# Altium integrated library TI Power Management Power Modules.IntLib: 831 symbols (part 20 of 44)
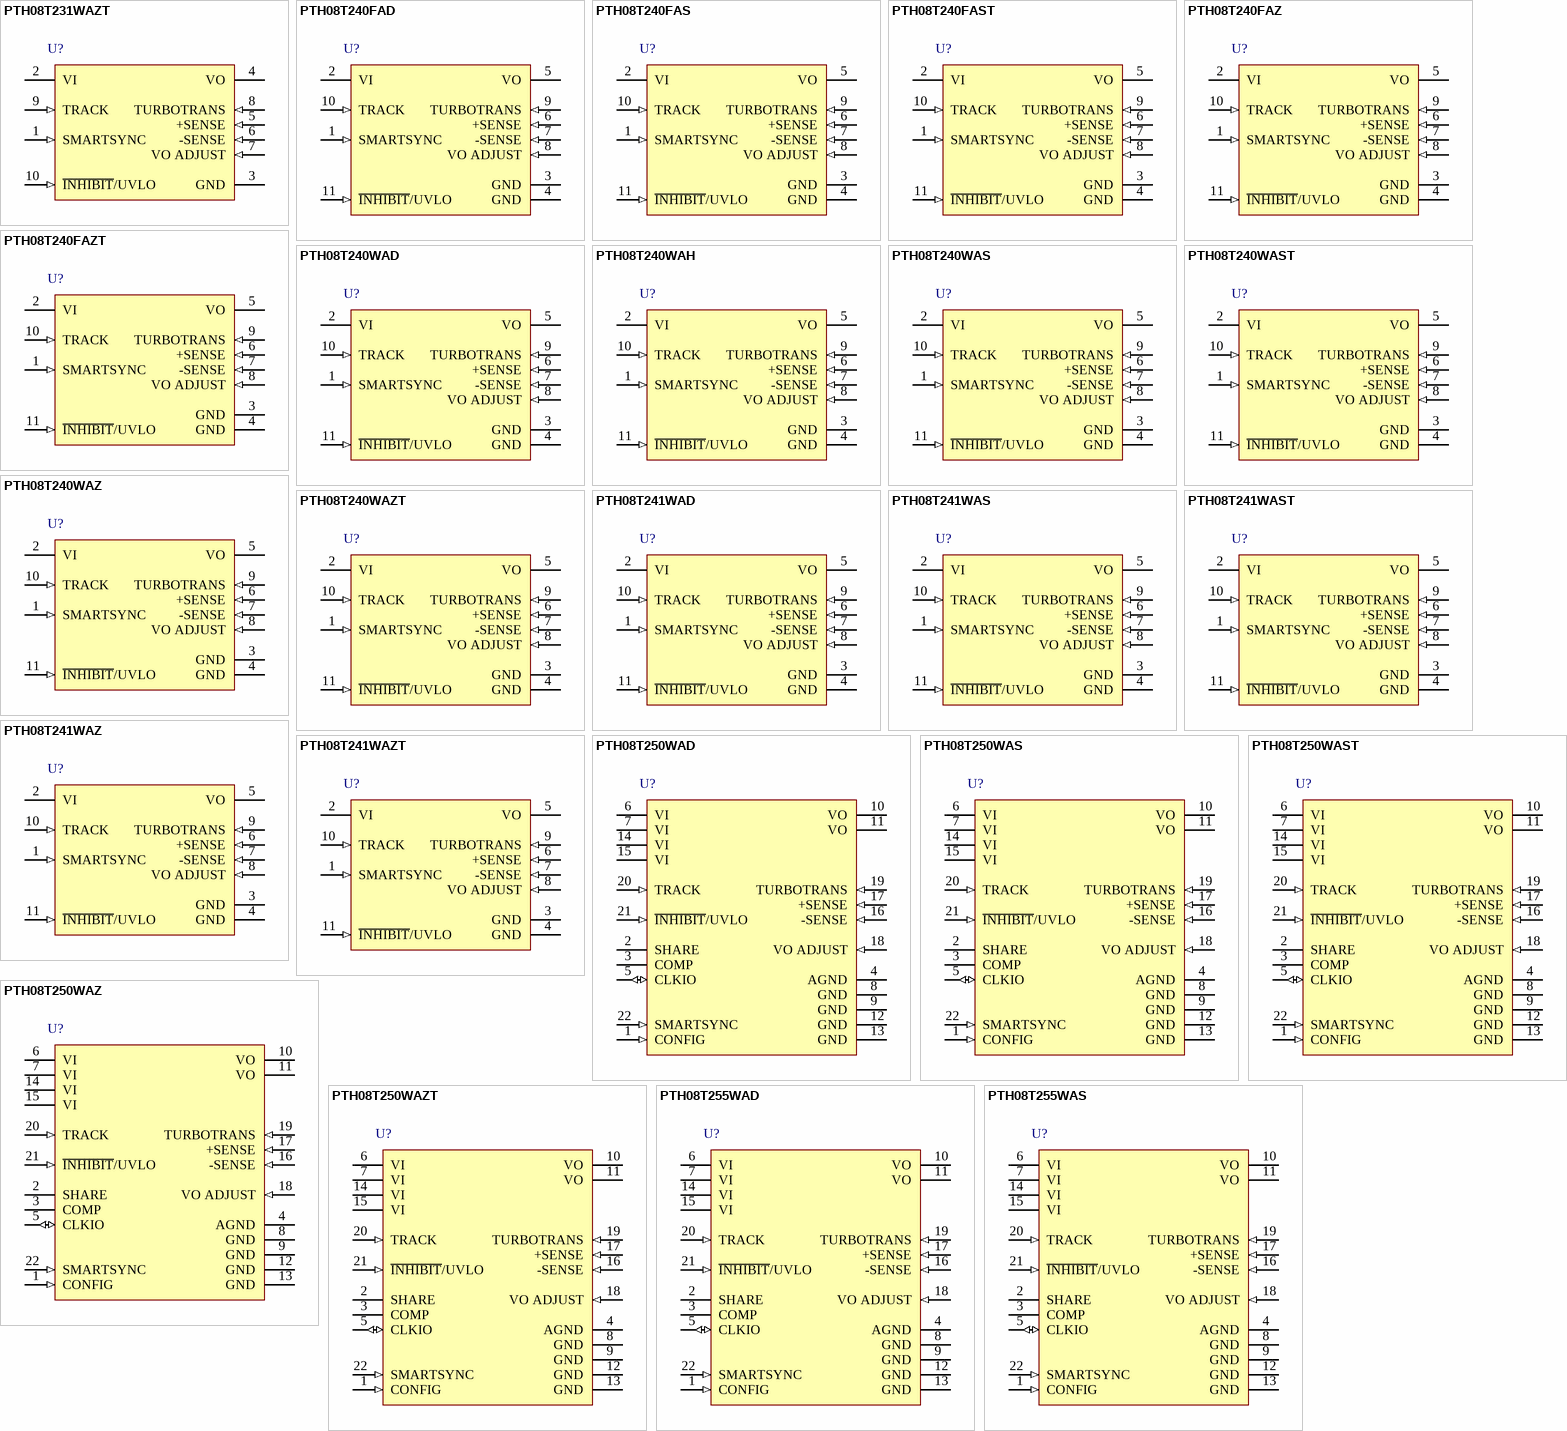
[diagram p42: symbols PTH08T231WAZT to PTH08T255WAS]

## PTH08T250WAZ
designator U?
50 A, 4.5 to 14 V Input, Non-Isolated, Wide Output, Adjustable Power Module with TurboTrans, -40 to 85 degC, 22-pin Module (BCU22), Pb-Free (RoHS); Manufacturer: Texas Instruments; PartNumber: PTH08T250WAZ; Iout(Max)(A): 50; Regulated Outputs(#): 1; SubFamily: Non-Isolated POL; Vin(Max)(V): 14; Vin(Min)(V): 4.5; VO Adjustable: TRUE; Vout(Max)(V): 3.6; Vout(Min)(V): 0.7; DatasheetVersion: SLTS278G; PackageVersion: 4208556/D; PackageReference: BCU22; PackageDescription: 22-Pin Plastic Special Shape, Body 25.91 x 38.61 mm; Supplier 1: Digi-Key; Supplier Part Number 1: 296-22039-ND; Supplier 2: Newark; Supplier Part Number 2: 53M3844; Supplier 3: Mouser; Supplier Part Number 3: 595-PTH08T250WAZ; Eco-Plan: Pb-Free (RoHS); Mounting Technology: Surface Mount; ComponentLink1Description: Manufacturer URL; ComponentLink1URL: http://www.ti.com/; ComponentLink2Description: Datasheet; ComponentLink2URL: http://www.ti.com/general/docs/lit/getliterature.tsp?genericPartNumber=PTH08T250W&fileType=pdf; ComponentLink3Description: Package Specification; ComponentLink3URL: http://www.ti.com/lit/ml/mpds325c/mpds325c.pdf; ComponentLink4Description: URL Link1; ComponentLink4URL: Samples URL:http://www.ti.com/product/pth08t250w#samples
footprint TI-BCU22_V (Module, 22-Leads, Body 38.61x25.91mm)
pins: 1 CONFIG (in) "When two modules are connected together to share load current one must be configured as the MASTER and the other as the SLAVE. This pin is used to configure the module as either MASTER or SLAVE. To configure the module as (See Datasheet)", 2 SHARE "This pin is used when connecting two modules together to share load current. When two modules are sharing current the Share pin of both modules must be connected together. When not sharing current, this pin MUST be left open (See Datasheet)", 3 COMP "This pin is used when connecting two modules together to share load current. When two modules are sharing current the Comp pin of both modules must be connected together. When not sharing current, this pin MUST be left open (See Datasheet)", 4 AGND (power) "This pin is the internal analog ground of the module. This pin provides the return path for the VOAdjust resistor (RSET). When two modules are sharing current the AGND pin of both modules must be connected together. Also, (See Datasheet)", 5 CLKIO (io) "This pin is used when connecting two modules together to share load current. When two modules are sharing current the CLKIO pin of both modules must be connected together. When not sharing current, this pin MUST be left open (See Datasheet)", 6 VI (power) "The positive input voltage power node to the module, which is referenced to common GND.", 7 VI (power) "The positive input voltage power node to the module, which is referenced to common GND.", 8 GND (power) "This is the common ground connection for the VI and VO power connections. It is also the 0 Vdc reference for the control inputs.", 9 GND (power) "This is the common ground connection for the VI and VO power connections. It is also the 0 Vdc reference for the control inputs.", 10 VO (power) "The regulated positive power output with respect to GND.", 11 VO (power) "The regulated positive power output with respect to GND.", 12 GND (power) "This is the common ground connection for the VI and VO power connections. It is also the 0 Vdc reference for the control inputs.", 13 GND (power) "This is the common ground connection for the VI and VO power connections. It is also the 0 Vdc reference for the control inputs.", 14 VI (power) "The positive input voltage power node to the module, which is referenced to common GND.", 15 VI (power) "The positive input voltage power node to the module, which is referenced to common GND.", 16 -SENSE (in) "The sense input allows the regulation circuit to compensate for voltage drop between the module and the load. The -Sense pin should always be connected to GND, either at the load for optimal voltage accuracy, or at the (See Datasheet)", 17 +SENSE (in) "The sense input allows the regulation circuit to compensate for voltage drop between the module and the load. The +Sense pin should always be connected to VO, either at the load for optimal voltage accuracy, or at the module (See Datasheet)", 18 VO ADJUST (in) "A 0.05 W 1% resistor must be directly connected between this pin and pin4 (AGND) to set the output voltage to a value higher than 3.0V. The temperature stability of the resistor should be 100 ppm/degreesC (or better). The (See Datasheet)", 19 TURBOTRANS (in) "This input pin adjusts the transient response of the regulator. To activate the TurboTrans feature, a 1%, 50mW resistor, must be connected between this pin and pin 17 (+Sense) very close to the module. For a given value of (See Datasheet)", 20 TRACK (in) "This is an analog control input that enables the output voltage to follow an external voltage. This pin becomes active typically 25 ms after a valid input voltage has been applied, and allows direct control of the output (See Datasheet)", 21 ~{INHIBIT}/UVLO (in) "The Inhibit pin is an open-collector/drain, negative logic input that is referenced to GND. Applying a low level ground signal to this input disables the module’s output and turns off the output voltage. When the Inhibit (See Datasheet)", 22 SMARTSYNC (in) "This input pin sychronizes the switching frequency of the module to an external clock frequency. The SmartSync feature can be used to sychronize the switching frequency of multiple modules, aiding EMI noise suppression (See Datasheet)"

## PTH08T250WAZT
designator U?
50 A, 4.5 to 14 V Input, Non-Isolated, Wide Output, Adjustable Power Module with TurboTrans, -40 to 85 degC, 22-pin Module (BCU22), Pb-Free (RoHS); Manufacturer: Texas Instruments; PartNumber: PTH08T250WAZT; Iout(Max)(A): 50; Regulated Outputs(#): 1; SubFamily: Non-Isolated POL; Vin(Max)(V): 14; Vin(Min)(V): 4.5; VO Adjustable: TRUE; Vout(Max)(V): 3.6; Vout(Min)(V): 0.7; DatasheetVersion: SLTS278G; PackageVersion: 4208556/D; PackageReference: BCU22; PackageDescription: 22-Pin Plastic Special Shape, Body 25.91 x 38.61 mm; Supplier 1: Digi-Key; Supplier Part Number 1: 296-31712-2-ND; Supplier 2: Digi-Key; Supplier Part Number 2: 296-31712-1-ND; Supplier 3: Digi-Key; Supplier Part Number 3: 296-31712-6-ND; Supplier 4: Newark; Supplier Part Number 4: 53M3845; Supplier 5: Mouser; Supplier Part Number 5: 595-PTH08T250WAZT; Eco-Plan: Pb-Free (RoHS); Mounting Technology: Surface Mount; ComponentLink1Description: Manufacturer URL; ComponentLink1URL: http://www.ti.com/; ComponentLink2Description: Datasheet; ComponentLink2URL: http://www.ti.com/general/docs/lit/getliterature.tsp?genericPartNumber=PTH08T250W&fileType=pdf; ComponentLink3Description: Package Specification; ComponentLink3URL: http://www.ti.com/lit/ml/mpds325c/mpds325c.pdf; ComponentLink4Description: URL Link1; ComponentLink4URL: Samples URL:http://www.ti.com/product/pth08t250w#samples
footprint TI-BCU22_V (Module, 22-Leads, Body 38.61x25.91mm)
pins: 1 CONFIG (in) "When two modules are connected together to share load current one must be configured as the MASTER and the other as the SLAVE. This pin is used to configure the module as either MASTER or SLAVE. To configure the module as (See Datasheet)", 2 SHARE "This pin is used when connecting two modules together to share load current. When two modules are sharing current the Share pin of both modules must be connected together. When not sharing current, this pin MUST be left open (See Datasheet)", 3 COMP "This pin is used when connecting two modules together to share load current. When two modules are sharing current the Comp pin of both modules must be connected together. When not sharing current, this pin MUST be left open (See Datasheet)", 4 AGND (power) "This pin is the internal analog ground of the module. This pin provides the return path for the VOAdjust resistor (RSET). When two modules are sharing current the AGND pin of both modules must be connected together. Also, (See Datasheet)", 5 CLKIO (io) "This pin is used when connecting two modules together to share load current. When two modules are sharing current the CLKIO pin of both modules must be connected together. When not sharing current, this pin MUST be left open (See Datasheet)", 6 VI (power) "The positive input voltage power node to the module, which is referenced to common GND.", 7 VI (power) "The positive input voltage power node to the module, which is referenced to common GND.", 8 GND (power) "This is the common ground connection for the VI and VO power connections. It is also the 0 Vdc reference for the control inputs.", 9 GND (power) "This is the common ground connection for the VI and VO power connections. It is also the 0 Vdc reference for the control inputs.", 10 VO (power) "The regulated positive power output with respect to GND.", 11 VO (power) "The regulated positive power output with respect to GND.", 12 GND (power) "This is the common ground connection for the VI and VO power connections. It is also the 0 Vdc reference for the control inputs.", 13 GND (power) "This is the common ground connection for the VI and VO power connections. It is also the 0 Vdc reference for the control inputs.", 14 VI (power) "The positive input voltage power node to the module, which is referenced to common GND.", 15 VI (power) "The positive input voltage power node to the module, which is referenced to common GND.", 16 -SENSE (in) "The sense input allows the regulation circuit to compensate for voltage drop between the module and the load. The -Sense pin should always be connected to GND, either at the load for optimal voltage accuracy, or at the (See Datasheet)", 17 +SENSE (in) "The sense input allows the regulation circuit to compensate for voltage drop between the module and the load. The +Sense pin should always be connected to VO, either at the load for optimal voltage accuracy, or at the module (See Datasheet)", 18 VO ADJUST (in) "A 0.05 W 1% resistor must be directly connected between this pin and pin4 (AGND) to set the output voltage to a value higher than 3.0V. The temperature stability of the resistor should be 100 ppm/degreesC (or better). The (See Datasheet)", 19 TURBOTRANS (in) "This input pin adjusts the transient response of the regulator. To activate the TurboTrans feature, a 1%, 50mW resistor, must be connected between this pin and pin 17 (+Sense) very close to the module. For a given value of (See Datasheet)", 20 TRACK (in) "This is an analog control input that enables the output voltage to follow an external voltage. This pin becomes active typically 25 ms after a valid input voltage has been applied, and allows direct control of the output (See Datasheet)", 21 ~{INHIBIT}/UVLO (in) "The Inhibit pin is an open-collector/drain, negative logic input that is referenced to GND. Applying a low level ground signal to this input disables the module’s output and turns off the output voltage. When the Inhibit (See Datasheet)", 22 SMARTSYNC (in) "This input pin sychronizes the switching frequency of the module to an external clock frequency. The SmartSync feature can be used to sychronize the switching frequency of multiple modules, aiding EMI noise suppression (See Datasheet)"

## PTH08T255WAD
designator U?
40 A, 8 to 14 V Input, 3 to 5.25 V Output, Non-Isolated, Power Module with TurboTrans, -40 to 85 degC, 22-pin Module (ECT22); Manufacturer: Texas Instruments; PartNumber: PTH08T255WAD; Eco-Plan: TBD; Iout(Max)(A): 40; Regulated Outputs(#): 1; SubFamily: Non-Isolated POL; Vin(Max)(V): 14; Vin(Min)(V): 8; VO Adjustable: TRUE; Vout(Max)(V): 5.25; Vout(Min)(V): 3; DatasheetVersion: SLTS290; PackageVersion: 4208554/C; PackageReference: ECT22; PackageDescription: 22-Pin Plastic Special Shape, Body 25.91 x 38.61 mm; Supplier 1: Digi-Key; Supplier Part Number 1: 296-24124-ND; Supplier 2: Newark; Supplier Part Number 2: 51P6668; Supplier 3: Mouser; Supplier Part Number 3: 595-PTH08T255WAD; Mounting Technology: Through Hole; ComponentLink1Description: Manufacturer URL; ComponentLink1URL: http://www.ti.com/; ComponentLink2Description: Datasheet; ComponentLink2URL: http://www.ti.com/general/docs/lit/getliterature.tsp?genericPartNumber=PTH08T255W&fileType=pdf; ComponentLink3Description: Package Specification; ComponentLink3URL: http://www.ti.com/litv/pdf/mpds323b; ComponentLink4Description: URL Link1; ComponentLink4URL: Samples URL:http://www.ti.com/product/pth08t255w#samples
footprint TI-ECT22_V (Module, 22-Leads, Body 38.61x25.91mm)
pins: 1 CONFIG (in) "When two modules are connected together to share load current one must be configured as the MASTER and the other as the SLAVE. This pin is used to configure the module as either MASTER or SLAVE. To configure the module as (See Datasheet)", 2 SHARE "This pin is used when connecting two modules together to share load current. When two modules are sharing current the Share pin of both modules must be connected together. When not sharing current, this pin MUST be left open (See Datasheet)", 3 COMP "This pin is used when connecting two modules together to share load current. When two modules are sharing current the Comp pin of both modules must be connected together. When not sharing current, this pin MUST be left open (See Datasheet)", 4 AGND (power) "This pin is the internal analog ground of the module. This pin provides the return path for the VOAdjust resistor (RSET). When two modules are sharing current the AGND pin of both modules must be connected together. Also, (See Datasheet)", 5 CLKIO (io) "This pin is used when connecting two modules together to share load current. When two modules are sharing current the CLKIO pin of both modules must be connected together. When not sharing current, this pin MUST be left open (See Datasheet)", 6 VI (power) "The positive input voltage power node to the module, which is referenced to common GND.", 7 VI (power) "The positive input voltage power node to the module, which is referenced to common GND.", 8 GND (power) "This is the common ground connection for the VI and VO power connections. It is also the 0 Vdc reference for the control inputs.", 9 GND (power) "This is the common ground connection for the VI and VO power connections. It is also the 0 Vdc reference for the control inputs.", 10 VO (power) "The regulated positive power output with respect to GND.", 11 VO (power) "The regulated positive power output with respect to GND.", 12 GND (power) "This is the common ground connection for the VI and VO power connections. It is also the 0 Vdc reference for the control inputs.", 13 GND (power) "This is the common ground connection for the VI and VO power connections. It is also the 0 Vdc reference for the control inputs.", 14 VI (power) "The positive input voltage power node to the module, which is referenced to common GND.", 15 VI (power) "The positive input voltage power node to the module, which is referenced to common GND.", 16 -SENSE (in) "The sense input allows the regulation circuit to compensate for voltage drop between the module and the load. The -Sense pin should always be connected to GND, either at the load for optimal voltage accuracy, or at the (See Datasheet)", 17 +SENSE (in) "The sense input allows the regulation circuit to compensate for voltage drop between the module and the load. The +Sense pin should always be connected to VO, either at the load for optimal voltage accuracy, or at the module (See Datasheet)", 18 VO ADJUST (in) "A 0.05 W 1% resistor must be directly connected between this pin and pin4 (AGND) to set the output voltage to a value higher than 3.0V. The temperature stability of the resistor should be 100 ppm/degreesC (or better). The (See Datasheet)", 19 TURBOTRANS (in) "This input pin adjusts the transient response of the regulator. To activate the TurboTrans feature, a 1%, 50mW resistor, must be connected between this pin and pin 17 (+Sense) very close to the module. For a given value of (See Datasheet)", 20 TRACK (in) "This is an analog control input that enables the output voltage to follow an external voltage. This pin becomes active typically 25 ms after a valid input voltage has been applied, and allows direct control of the output (See Datasheet)", 21 ~{INHIBIT}/UVLO (in) "The Inhibit pin is an open-collector/drain, negative logic input that is referenced to GND. Applying a low level ground signal to this input disables the module’s output and turns off the output voltage. When the Inhibit (See Datasheet)", 22 SMARTSYNC (in) "This input pin sychronizes the switching frequency of the module to an external clock frequency. The SmartSync feature can be used to sychronize the switching frequency of multiple modules, aiding EMI noise suppression (See Datasheet)"

## PTH08T255WAS
designator U?
40 A, 8 to 14 V Input, 3 to 5.25 V Output, Non-Isolated, Power Module with TurboTrans, -40 to 85 degC, 22-pin Module (ECU22); Manufacturer: Texas Instruments; PartNumber: PTH08T255WAS; Eco-Plan: TBD; Iout(Max)(A): 40; Regulated Outputs(#): 1; SubFamily: Non-Isolated POL; Vin(Max)(V): 14; Vin(Min)(V): 8; VO Adjustable: TRUE; Vout(Max)(V): 5.25; Vout(Min)(V): 3; DatasheetVersion: SLTS290; PackageVersion: 4208555/D; PackageReference: ECU22; PackageDescription: 22-Pin Plastic Special Shape, Body 25.91 x 38.61 mm; Supplier 1: Digi-Key; Supplier Part Number 1: 296-24125-ND; Supplier 2: Mouser; Supplier Part Number 2: 595-PTH08T255WAS; Mounting Technology: Surface Mount; ComponentLink1Description: Manufacturer URL; ComponentLink1URL: http://www.ti.com/; ComponentLink2Description: Datasheet; ComponentLink2URL: http://www.ti.com/general/docs/lit/getliterature.tsp?genericPartNumber=PTH08T255W&fileType=pdf; ComponentLink3Description: Package Specification; ComponentLink3URL: http://www.ti.com/litv/pdf/mpds324c; ComponentLink4Description: URL Link1; ComponentLink4URL: Samples URL:http://www.ti.com/product/pth08t255w#samples
footprint TI-ECU22_V (Module, 22-Leads, Body 38.61x25.91mm)
pins: 1 CONFIG (in) "When two modules are connected together to share load current one must be configured as the MASTER and the other as the SLAVE. This pin is used to configure the module as either MASTER or SLAVE. To configure the module as (See Datasheet)", 2 SHARE "This pin is used when connecting two modules together to share load current. When two modules are sharing current the Share pin of both modules must be connected together. When not sharing current, this pin MUST be left open (See Datasheet)", 3 COMP "This pin is used when connecting two modules together to share load current. When two modules are sharing current the Comp pin of both modules must be connected together. When not sharing current, this pin MUST be left open (See Datasheet)", 4 AGND (power) "This pin is the internal analog ground of the module. This pin provides the return path for the VOAdjust resistor (RSET). When two modules are sharing current the AGND pin of both modules must be connected together. Also, (See Datasheet)", 5 CLKIO (io) "This pin is used when connecting two modules together to share load current. When two modules are sharing current the CLKIO pin of both modules must be connected together. When not sharing current, this pin MUST be left open (See Datasheet)", 6 VI (power) "The positive input voltage power node to the module, which is referenced to common GND.", 7 VI (power) "The positive input voltage power node to the module, which is referenced to common GND.", 8 GND (power) "This is the common ground connection for the VI and VO power connections. It is also the 0 Vdc reference for the control inputs.", 9 GND (power) "This is the common ground connection for the VI and VO power connections. It is also the 0 Vdc reference for the control inputs.", 10 VO (power) "The regulated positive power output with respect to GND.", 11 VO (power) "The regulated positive power output with respect to GND.", 12 GND (power) "This is the common ground connection for the VI and VO power connections. It is also the 0 Vdc reference for the control inputs.", 13 GND (power) "This is the common ground connection for the VI and VO power connections. It is also the 0 Vdc reference for the control inputs.", 14 VI (power) "The positive input voltage power node to the module, which is referenced to common GND.", 15 VI (power) "The positive input voltage power node to the module, which is referenced to common GND.", 16 -SENSE (in) "The sense input allows the regulation circuit to compensate for voltage drop between the module and the load. The -Sense pin should always be connected to GND, either at the load for optimal voltage accuracy, or at the (See Datasheet)", 17 +SENSE (in) "The sense input allows the regulation circuit to compensate for voltage drop between the module and the load. The +Sense pin should always be connected to VO, either at the load for optimal voltage accuracy, or at the module (See Datasheet)", 18 VO ADJUST (in) "A 0.05 W 1% resistor must be directly connected between this pin and pin4 (AGND) to set the output voltage to a value higher than 3.0V. The temperature stability of the resistor should be 100 ppm/degreesC (or better). The (See Datasheet)", 19 TURBOTRANS (in) "This input pin adjusts the transient response of the regulator. To activate the TurboTrans feature, a 1%, 50mW resistor, must be connected between this pin and pin 17 (+Sense) very close to the module. For a given value of (See Datasheet)", 20 TRACK (in) "This is an analog control input that enables the output voltage to follow an external voltage. This pin becomes active typically 25 ms after a valid input voltage has been applied, and allows direct control of the output (See Datasheet)", 21 ~{INHIBIT}/UVLO (in) "The Inhibit pin is an open-collector/drain, negative logic input that is referenced to GND. Applying a low level ground signal to this input disables the module’s output and turns off the output voltage. When the Inhibit (See Datasheet)", 22 SMARTSYNC (in) "This input pin sychronizes the switching frequency of the module to an external clock frequency. The SmartSync feature can be used to sychronize the switching frequency of multiple modules, aiding EMI noise suppression (See Datasheet)"

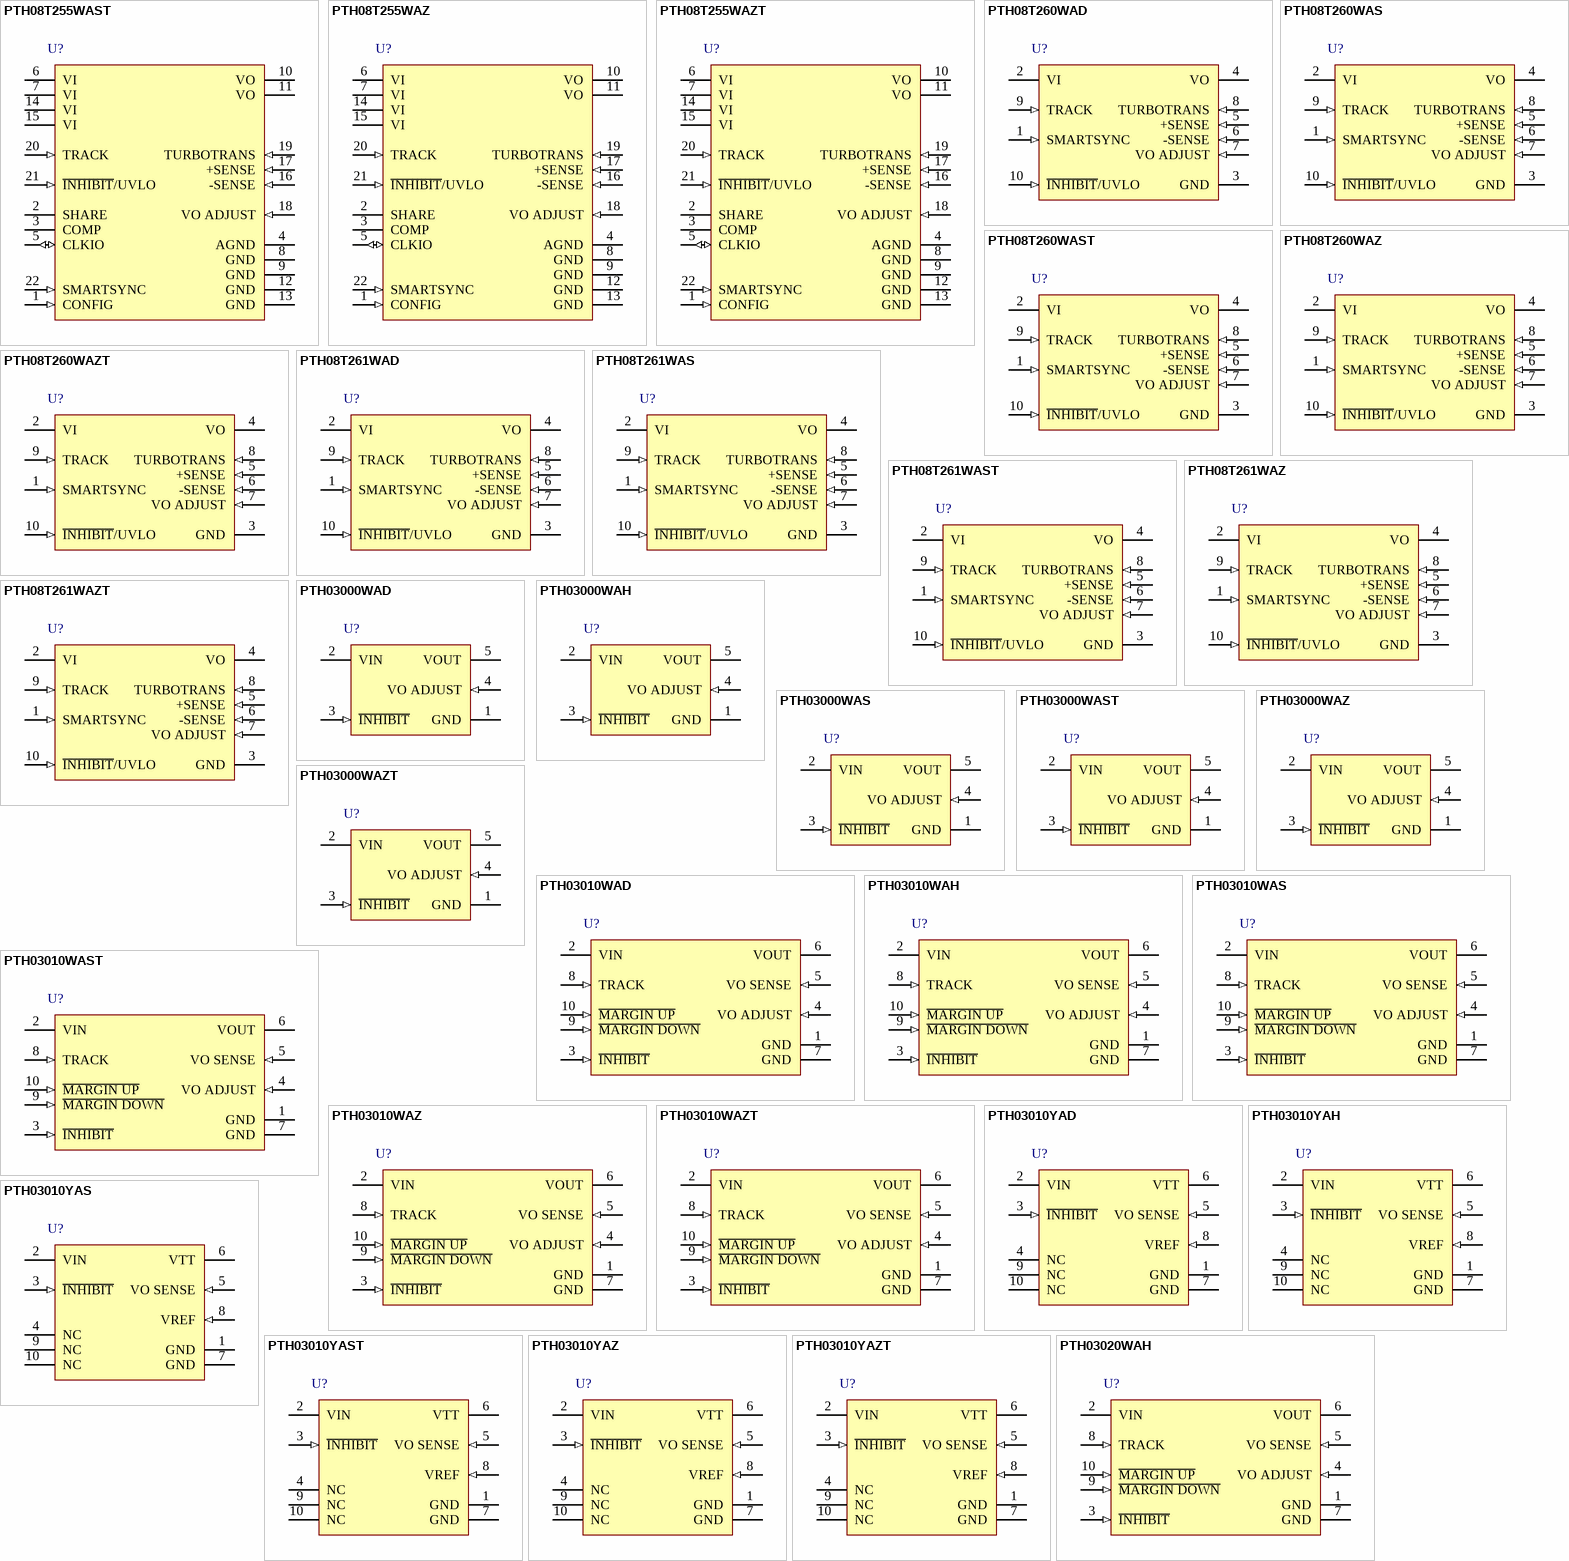
[diagram p12: symbols PTH08T255WAST to PTH03020WAH]

## PTH08T255WAST
designator U?
40 A, 8 to 14 V Input, 3 to 5.25 V Output, Non-Isolated, Power Module with TurboTrans, -40 to 85 degC, 22-pin Module (ECU22); Manufacturer: Texas Instruments; PartNumber: PTH08T255WAST; Eco-Plan: TBD; Iout(Max)(A): 40; Regulated Outputs(#): 1; SubFamily: Non-Isolated POL; Vin(Max)(V): 14; Vin(Min)(V): 8; VO Adjustable: TRUE; Vout(Max)(V): 5.25; Vout(Min)(V): 3; DatasheetVersion: SLTS290; PackageVersion: 4208555/D; PackageReference: ECU22; PackageDescription: 22-Pin Plastic Special Shape, Body 25.91 x 38.61 mm; Supplier 1: Digi-Key; Supplier Part Number 1: PTH08T255WAST-ND; Supplier 2: Mouser; Supplier Part Number 2: 595-PTH08T255WAST; Mounting Technology: Surface Mount; ComponentLink1Description: Manufacturer URL; ComponentLink1URL: http://www.ti.com/; ComponentLink2Description: Datasheet; ComponentLink2URL: http://www.ti.com/general/docs/lit/getliterature.tsp?genericPartNumber=PTH08T255W&fileType=pdf; ComponentLink3Description: Package Specification; ComponentLink3URL: http://www.ti.com/litv/pdf/mpds324c; ComponentLink4Description: URL Link1; ComponentLink4URL: Samples URL:http://www.ti.com/product/pth08t255w#samples
footprint TI-ECU22_V (Module, 22-Leads, Body 38.61x25.91mm)
pins: 1 CONFIG (in) "When two modules are connected together to share load current one must be configured as the MASTER and the other as the SLAVE. This pin is used to configure the module as either MASTER or SLAVE. To configure the module as (See Datasheet)", 2 SHARE "This pin is used when connecting two modules together to share load current. When two modules are sharing current the Share pin of both modules must be connected together. When not sharing current, this pin MUST be left open (See Datasheet)", 3 COMP "This pin is used when connecting two modules together to share load current. When two modules are sharing current the Comp pin of both modules must be connected together. When not sharing current, this pin MUST be left open (See Datasheet)", 4 AGND (power) "This pin is the internal analog ground of the module. This pin provides the return path for the VOAdjust resistor (RSET). When two modules are sharing current the AGND pin of both modules must be connected together. Also, (See Datasheet)", 5 CLKIO (io) "This pin is used when connecting two modules together to share load current. When two modules are sharing current the CLKIO pin of both modules must be connected together. When not sharing current, this pin MUST be left open (See Datasheet)", 6 VI (power) "The positive input voltage power node to the module, which is referenced to common GND.", 7 VI (power) "The positive input voltage power node to the module, which is referenced to common GND.", 8 GND (power) "This is the common ground connection for the VI and VO power connections. It is also the 0 Vdc reference for the control inputs.", 9 GND (power) "This is the common ground connection for the VI and VO power connections. It is also the 0 Vdc reference for the control inputs.", 10 VO (power) "The regulated positive power output with respect to GND.", 11 VO (power) "The regulated positive power output with respect to GND.", 12 GND (power) "This is the common ground connection for the VI and VO power connections. It is also the 0 Vdc reference for the control inputs.", 13 GND (power) "This is the common ground connection for the VI and VO power connections. It is also the 0 Vdc reference for the control inputs.", 14 VI (power) "The positive input voltage power node to the module, which is referenced to common GND.", 15 VI (power) "The positive input voltage power node to the module, which is referenced to common GND.", 16 -SENSE (in) "The sense input allows the regulation circuit to compensate for voltage drop between the module and the load. The -Sense pin should always be connected to GND, either at the load for optimal voltage accuracy, or at the (See Datasheet)", 17 +SENSE (in) "The sense input allows the regulation circuit to compensate for voltage drop between the module and the load. The +Sense pin should always be connected to VO, either at the load for optimal voltage accuracy, or at the module (See Datasheet)", 18 VO ADJUST (in) "A 0.05 W 1% resistor must be directly connected between this pin and pin4 (AGND) to set the output voltage to a value higher than 3.0V. The temperature stability of the resistor should be 100 ppm/degreesC (or better). The (See Datasheet)", 19 TURBOTRANS (in) "This input pin adjusts the transient response of the regulator. To activate the TurboTrans feature, a 1%, 50mW resistor, must be connected between this pin and pin 17 (+Sense) very close to the module. For a given value of (See Datasheet)", 20 TRACK (in) "This is an analog control input that enables the output voltage to follow an external voltage. This pin becomes active typically 25 ms after a valid input voltage has been applied, and allows direct control of the output (See Datasheet)", 21 ~{INHIBIT}/UVLO (in) "The Inhibit pin is an open-collector/drain, negative logic input that is referenced to GND. Applying a low level ground signal to this input disables the module’s output and turns off the output voltage. When the Inhibit (See Datasheet)", 22 SMARTSYNC (in) "This input pin sychronizes the switching frequency of the module to an external clock frequency. The SmartSync feature can be used to sychronize the switching frequency of multiple modules, aiding EMI noise suppression (See Datasheet)"

## PTH08T255WAZ
designator U?
40 A, 8 to 14 V Input, 3 to 5.25 V Output, Non-Isolated, Power Module with TurboTrans, -40 to 85 degC, 22-pin Module (BCU22); Manufacturer: Texas Instruments; PartNumber: PTH08T255WAZ; Eco-Plan: TBD; Iout(Max)(A): 40; Regulated Outputs(#): 1; SubFamily: Non-Isolated POL; Vin(Max)(V): 14; Vin(Min)(V): 8; VO Adjustable: TRUE; Vout(Max)(V): 5.25; Vout(Min)(V): 3; DatasheetVersion: SLTS290; PackageVersion: 4208556/D; PackageReference: BCU22; PackageDescription: 22-Pin Plastic Special Shape, Body 25.91 x 38.61 mm; Supplier 1: Digi-Key; Supplier Part Number 1: 296-24126-ND; Supplier 2: Mouser; Supplier Part Number 2: 595-PTH08T255WAZ; Mounting Technology: Surface Mount; ComponentLink1Description: Manufacturer URL; ComponentLink1URL: http://www.ti.com/; ComponentLink2Description: Datasheet; ComponentLink2URL: http://www.ti.com/general/docs/lit/getliterature.tsp?genericPartNumber=PTH08T255W&fileType=pdf; ComponentLink3Description: Package Specification; ComponentLink3URL: http://www.ti.com/lit/ml/mpds325c/mpds325c.pdf; ComponentLink4Description: URL Link1; ComponentLink4URL: Samples URL:http://www.ti.com/product/pth08t255w#samples
footprint TI-BCU22_V (Module, 22-Leads, Body 38.61x25.91mm)
pins: 1 CONFIG (in) "When two modules are connected together to share load current one must be configured as the MASTER and the other as the SLAVE. This pin is used to configure the module as either MASTER or SLAVE. To configure the module as (See Datasheet)", 2 SHARE "This pin is used when connecting two modules together to share load current. When two modules are sharing current the Share pin of both modules must be connected together. When not sharing current, this pin MUST be left open (See Datasheet)", 3 COMP "This pin is used when connecting two modules together to share load current. When two modules are sharing current the Comp pin of both modules must be connected together. When not sharing current, this pin MUST be left open (See Datasheet)", 4 AGND (power) "This pin is the internal analog ground of the module. This pin provides the return path for the VOAdjust resistor (RSET). When two modules are sharing current the AGND pin of both modules must be connected together. Also, (See Datasheet)", 5 CLKIO (io) "This pin is used when connecting two modules together to share load current. When two modules are sharing current the CLKIO pin of both modules must be connected together. When not sharing current, this pin MUST be left open (See Datasheet)", 6 VI (power) "The positive input voltage power node to the module, which is referenced to common GND.", 7 VI (power) "The positive input voltage power node to the module, which is referenced to common GND.", 8 GND (power) "This is the common ground connection for the VI and VO power connections. It is also the 0 Vdc reference for the control inputs.", 9 GND (power) "This is the common ground connection for the VI and VO power connections. It is also the 0 Vdc reference for the control inputs.", 10 VO (power) "The regulated positive power output with respect to GND.", 11 VO (power) "The regulated positive power output with respect to GND.", 12 GND (power) "This is the common ground connection for the VI and VO power connections. It is also the 0 Vdc reference for the control inputs.", 13 GND (power) "This is the common ground connection for the VI and VO power connections. It is also the 0 Vdc reference for the control inputs.", 14 VI (power) "The positive input voltage power node to the module, which is referenced to common GND.", 15 VI (power) "The positive input voltage power node to the module, which is referenced to common GND.", 16 -SENSE (in) "The sense input allows the regulation circuit to compensate for voltage drop between the module and the load. The -Sense pin should always be connected to GND, either at the load for optimal voltage accuracy, or at the (See Datasheet)", 17 +SENSE (in) "The sense input allows the regulation circuit to compensate for voltage drop between the module and the load. The +Sense pin should always be connected to VO, either at the load for optimal voltage accuracy, or at the module (See Datasheet)", 18 VO ADJUST (in) "A 0.05 W 1% resistor must be directly connected between this pin and pin4 (AGND) to set the output voltage to a value higher than 3.0V. The temperature stability of the resistor should be 100 ppm/degreesC (or better). The (See Datasheet)", 19 TURBOTRANS (in) "This input pin adjusts the transient response of the regulator. To activate the TurboTrans feature, a 1%, 50mW resistor, must be connected between this pin and pin 17 (+Sense) very close to the module. For a given value of (See Datasheet)", 20 TRACK (in) "This is an analog control input that enables the output voltage to follow an external voltage. This pin becomes active typically 25 ms after a valid input voltage has been applied, and allows direct control of the output (See Datasheet)", 21 ~{INHIBIT}/UVLO (in) "The Inhibit pin is an open-collector/drain, negative logic input that is referenced to GND. Applying a low level ground signal to this input disables the module’s output and turns off the output voltage. When the Inhibit (See Datasheet)", 22 SMARTSYNC (in) "This input pin sychronizes the switching frequency of the module to an external clock frequency. The SmartSync feature can be used to sychronize the switching frequency of multiple modules, aiding EMI noise suppression (See Datasheet)"

## PTH08T255WAZT
designator U?
40 A, 8 to 14 V Input, 3 to 5.25 V Output, Non-Isolated, Power Module with TurboTrans, -40 to 85 degC, 22-pin Module (BCU22); Manufacturer: Texas Instruments; PartNumber: PTH08T255WAZT; Eco-Plan: TBD; Iout(Max)(A): 40; Regulated Outputs(#): 1; SubFamily: Non-Isolated POL; Vin(Max)(V): 14; Vin(Min)(V): 8; VO Adjustable: TRUE; Vout(Max)(V): 5.25; Vout(Min)(V): 3; DatasheetVersion: SLTS290; PackageVersion: 4208556/D; PackageReference: BCU22; PackageDescription: 22-Pin Plastic Special Shape, Body 25.91 x 38.61 mm; Supplier 1: Digi-Key; Supplier Part Number 1: PTH08T255WAZT-ND; Supplier 2: Mouser; Supplier Part Number 2: 595-PTH08T255WAZT; Mounting Technology: Surface Mount; ComponentLink1Description: Manufacturer URL; ComponentLink1URL: http://www.ti.com/; ComponentLink2Description: Datasheet; ComponentLink2URL: http://www.ti.com/general/docs/lit/getliterature.tsp?genericPartNumber=PTH08T255W&fileType=pdf; ComponentLink3Description: Package Specification; ComponentLink3URL: http://www.ti.com/lit/ml/mpds325c/mpds325c.pdf; ComponentLink4Description: URL Link1; ComponentLink4URL: Samples URL:http://www.ti.com/product/pth08t255w#samples
footprint TI-BCU22_V (Module, 22-Leads, Body 38.61x25.91mm)
pins: 1 CONFIG (in) "When two modules are connected together to share load current one must be configured as the MASTER and the other as the SLAVE. This pin is used to configure the module as either MASTER or SLAVE. To configure the module as (See Datasheet)", 2 SHARE "This pin is used when connecting two modules together to share load current. When two modules are sharing current the Share pin of both modules must be connected together. When not sharing current, this pin MUST be left open (See Datasheet)", 3 COMP "This pin is used when connecting two modules together to share load current. When two modules are sharing current the Comp pin of both modules must be connected together. When not sharing current, this pin MUST be left open (See Datasheet)", 4 AGND (power) "This pin is the internal analog ground of the module. This pin provides the return path for the VOAdjust resistor (RSET). When two modules are sharing current the AGND pin of both modules must be connected together. Also, (See Datasheet)", 5 CLKIO (io) "This pin is used when connecting two modules together to share load current. When two modules are sharing current the CLKIO pin of both modules must be connected together. When not sharing current, this pin MUST be left open (See Datasheet)", 6 VI (power) "The positive input voltage power node to the module, which is referenced to common GND.", 7 VI (power) "The positive input voltage power node to the module, which is referenced to common GND.", 8 GND (power) "This is the common ground connection for the VI and VO power connections. It is also the 0 Vdc reference for the control inputs.", 9 GND (power) "This is the common ground connection for the VI and VO power connections. It is also the 0 Vdc reference for the control inputs.", 10 VO (power) "The regulated positive power output with respect to GND.", 11 VO (power) "The regulated positive power output with respect to GND.", 12 GND (power) "This is the common ground connection for the VI and VO power connections. It is also the 0 Vdc reference for the control inputs.", 13 GND (power) "This is the common ground connection for the VI and VO power connections. It is also the 0 Vdc reference for the control inputs.", 14 VI (power) "The positive input voltage power node to the module, which is referenced to common GND.", 15 VI (power) "The positive input voltage power node to the module, which is referenced to common GND.", 16 -SENSE (in) "The sense input allows the regulation circuit to compensate for voltage drop between the module and the load. The -Sense pin should always be connected to GND, either at the load for optimal voltage accuracy, or at the (See Datasheet)", 17 +SENSE (in) "The sense input allows the regulation circuit to compensate for voltage drop between the module and the load. The +Sense pin should always be connected to VO, either at the load for optimal voltage accuracy, or at the module (See Datasheet)", 18 VO ADJUST (in) "A 0.05 W 1% resistor must be directly connected between this pin and pin4 (AGND) to set the output voltage to a value higher than 3.0V. The temperature stability of the resistor should be 100 ppm/degreesC (or better). The (See Datasheet)", 19 TURBOTRANS (in) "This input pin adjusts the transient response of the regulator. To activate the TurboTrans feature, a 1%, 50mW resistor, must be connected between this pin and pin 17 (+Sense) very close to the module. For a given value of (See Datasheet)", 20 TRACK (in) "This is an analog control input that enables the output voltage to follow an external voltage. This pin becomes active typically 25 ms after a valid input voltage has been applied, and allows direct control of the output (See Datasheet)", 21 ~{INHIBIT}/UVLO (in) "The Inhibit pin is an open-collector/drain, negative logic input that is referenced to GND. Applying a low level ground signal to this input disables the module’s output and turns off the output voltage. When the Inhibit (See Datasheet)", 22 SMARTSYNC (in) "This input pin sychronizes the switching frequency of the module to an external clock frequency. The SmartSync feature can be used to sychronize the switching frequency of multiple modules, aiding EMI noise suppression (See Datasheet)"

## PTH08T260WAD
designator U?
3 A, 4.5 to 14 V Input, Non-Isolated, Wide Output, Adjustable Power Module with TurboTrans, -40 to 85 degC, 10-pin Module (ECL10), Pb-Free (RoHS); Manufacturer: Texas Instruments; PartNumber: PTH08T260WAD; Iout(Max)(A): 3; Regulated Outputs(#): 1; SubFamily: Non-Isolated POL; Vin(Max)(V): 14; Vin(Min)(V): 4.5; VO Adjustable: TRUE; Vout(Max)(V): 5.5; Vout(Min)(V): 0.69; DatasheetVersion: SLTS272G; PackageVersion: 4207913/D; PackageReference: ECL10; PackageDescription: 10-Pin Plastic Special Shape, Body 15.75 x 18.92 mm; Supplier 1: Digi-Key; Supplier Part Number 1: 296-21404-ND; Supplier 2: Farnell; Supplier Part Number 2: 1755100; Supplier 3: Newark; Supplier Part Number 3: 50R5661; Supplier 4: Newark; Supplier Part Number 4: 27M0669; Supplier 5: Mouser; Supplier Part Number 5: 595-PTH08T260WAD; Eco-Plan: Pb-Free (RoHS); Mounting Technology: Through Hole; ComponentLink1Description: Manufacturer URL; ComponentLink1URL: http://www.ti.com/; ComponentLink2Description: Datasheet; ComponentLink2URL: http://www.ti.com/general/docs/lit/getliterature.tsp?genericPartNumber=PTH08T260W&fileType=pdf; ComponentLink3Description: Package Specification; ComponentLink3URL: http://www.ti.com/litv/pdf/mpds290c; ComponentLink4Description: URL Link1; ComponentLink4URL: Samples URL:http://www.ti.com/product/pth08t260w#samples
footprint TI-ECL10_V (Module, 10-Leads, Body 18.92x15.75 mm)
pins: 1 SMARTSYNC (in) "This input pin sychronizes the switching frequency of the module to an external clock frequency. The SmartSync feature can be used to sychronize the switching fequency of multiple PTH04T230/231W modules, aiding EMI noise (See Datasheet)", 2 VI (power) "The positive input voltage power node to the module, which is referenced to common GND.", 3 GND (power) "This is the common ground connection for the VI and VO power connections. It is also the 0 Vdc reference for the control inputs.", 4 VO (power) "The regulated positive power output with respect to the GND", 5 +SENSE (in) "The sense input allows the regulation circuit to compensate for voltage drop between the module and the load. For optimal voltage accuracy, +Sense must be connected to VO, close to the load.", 6 -SENSE (in) "The sense input allows the regulation circuit to compensate for voltage drop between the module and the load. For optimal voltage accuracy, -Sense must be connected to GND (pin 3), very close to the module (within 10 cm).", 7 VO ADJUST (in) "A 0.05 W 1% resistor must be directly connected between this pin and pin 6 (- Sense) to set the output voltage to a value higher than 0.69 V. The temperature stability of the resistor should be 100 ppm/degreesC (or better). (See Datasheet)", 8 TURBOTRANS (in) "This input pin adjusts the transient response of the regulator. To activate the TurboTrans feature, a 1%, 0.05 W resistor must be connected between this pin and pin 5 (+Sense) very close to the module. For a given value of (See Datasheet)", 9 TRACK (in) "This is an analog control input that enables the output voltage to follow an external voltage. This pin becomes active typically 20 ms after the input voltage has been applied, and allows direct control of the output voltage (See Datasheet)", 10 ~{INHIBIT}/UVLO (in) "The Inhibit pin is an open-collector/drain, negative logic input that is referenced to GND. Applying a low level ground signal to this input disables the module’s output and turns off the output voltage. When the Inhibit (See Datasheet)"

## PTH08T260WAS
designator U?
3 A, 4.5 to 14 V Input, Non-Isolated, Wide Output, Adjustable Power Module with TurboTrans, -40 to 85 degC, 10-pin Module (ECM10); Manufacturer: Texas Instruments; PartNumber: PTH08T260WAS; Eco-Plan: TBD; Iout(Max)(A): 3; Regulated Outputs(#): 1; SubFamily: Non-Isolated POL; Vin(Max)(V): 14; Vin(Min)(V): 4.5; VO Adjustable: TRUE; Vout(Max)(V): 5.5; Vout(Min)(V): 0.69; DatasheetVersion: SLTS272G; PackageVersion: 4207914/E; PackageReference: ECM10; PackageDescription: 10-Pin Plastic Special Shape, Body 15.75 x 18.92 mm; Supplier 1: Digi-Key; Supplier Part Number 1: 296-21405-ND; Supplier 2: Newark; Supplier Part Number 2: 27M0670; Supplier 3: Mouser; Supplier Part Number 3: 595-PTH08T260WAS; Mounting Technology: Surface Mount; ComponentLink1Description: Manufacturer URL; ComponentLink1URL: http://www.ti.com/; ComponentLink2Description: Datasheet; ComponentLink2URL: http://www.ti.com/general/docs/lit/getliterature.tsp?genericPartNumber=PTH08T260W&fileType=pdf; ComponentLink3Description: Package Specification; ComponentLink3URL: http://www.ti.com/litv/pdf/mpds291d; ComponentLink4Description: URL Link1; ComponentLink4URL: Samples URL:http://www.ti.com/product/pth08t260w#samples
footprint TI-ECM10_V (Module, 10-Leads, Body 18.92x15.75mm)
pins: 1 SMARTSYNC (in) "This input pin sychronizes the switching frequency of the module to an external clock frequency. The SmartSync feature can be used to sychronize the switching fequency of multiple PTH04T230/231W modules, aiding EMI noise (See Datasheet)", 2 VI (power) "The positive input voltage power node to the module, which is referenced to common GND.", 3 GND (power) "This is the common ground connection for the VI and VO power connections. It is also the 0 Vdc reference for the control inputs.", 4 VO (power) "The regulated positive power output with respect to the GND", 5 +SENSE (in) "The sense input allows the regulation circuit to compensate for voltage drop between the module and the load. For optimal voltage accuracy, +Sense must be connected to VO, close to the load.", 6 -SENSE (in) "The sense input allows the regulation circuit to compensate for voltage drop between the module and the load. For optimal voltage accuracy, -Sense must be connected to GND (pin 3), very close to the module (within 10 cm).", 7 VO ADJUST (in) "A 0.05 W 1% resistor must be directly connected between this pin and pin 6 (- Sense) to set the output voltage to a value higher than 0.69 V. The temperature stability of the resistor should be 100 ppm/degreesC (or better). (See Datasheet)", 8 TURBOTRANS (in) "This input pin adjusts the transient response of the regulator. To activate the TurboTrans feature, a 1%, 0.05 W resistor must be connected between this pin and pin 5 (+Sense) very close to the module. For a given value of (See Datasheet)", 9 TRACK (in) "This is an analog control input that enables the output voltage to follow an external voltage. This pin becomes active typically 20 ms after the input voltage has been applied, and allows direct control of the output voltage (See Datasheet)", 10 ~{INHIBIT}/UVLO (in) "The Inhibit pin is an open-collector/drain, negative logic input that is referenced to GND. Applying a low level ground signal to this input disables the module’s output and turns off the output voltage. When the Inhibit (See Datasheet)"

## PTH08T260WAST
designator U?
3 A, 4.5 to 14 V Input, Non-Isolated, Wide Output, Adjustable Power Module with TurboTrans, -40 to 85 degC, 10-pin Module (ECM10); Manufacturer: Texas Instruments; PartNumber: PTH08T260WAST; Eco-Plan: TBD; Iout(Max)(A): 3; Regulated Outputs(#): 1; SubFamily: Non-Isolated POL; Vin(Max)(V): 14; Vin(Min)(V): 4.5; VO Adjustable: TRUE; Vout(Max)(V): 5.5; Vout(Min)(V): 0.69; DatasheetVersion: SLTS272G; PackageVersion: 4207914/E; PackageReference: ECM10; PackageDescription: 10-Pin Plastic Special Shape, Body 15.75 x 18.92 mm; Supplier 1: Digi-Key; Supplier Part Number 1: PTH08T260WAST-ND; Supplier 2: Newark; Supplier Part Number 2: 27M0671; Supplier 3: Mouser; Supplier Part Number 3: 595-PTH08T260WAST; Mounting Technology: Surface Mount; ComponentLink1Description: Manufacturer URL; ComponentLink1URL: http://www.ti.com/; ComponentLink2Description: Datasheet; ComponentLink2URL: http://www.ti.com/general/docs/lit/getliterature.tsp?genericPartNumber=PTH08T260W&fileType=pdf; ComponentLink3Description: Package Specification; ComponentLink3URL: http://www.ti.com/litv/pdf/mpds291d; ComponentLink4Description: URL Link1; ComponentLink4URL: Samples URL:http://www.ti.com/product/pth08t260w#samples
footprint TI-ECM10_V (Module, 10-Leads, Body 18.92x15.75mm)
pins: 1 SMARTSYNC (in) "This input pin sychronizes the switching frequency of the module to an external clock frequency. The SmartSync feature can be used to sychronize the switching fequency of multiple PTH04T230/231W modules, aiding EMI noise (See Datasheet)", 2 VI (power) "The positive input voltage power node to the module, which is referenced to common GND.", 3 GND (power) "This is the common ground connection for the VI and VO power connections. It is also the 0 Vdc reference for the control inputs.", 4 VO (power) "The regulated positive power output with respect to the GND", 5 +SENSE (in) "The sense input allows the regulation circuit to compensate for voltage drop between the module and the load. For optimal voltage accuracy, +Sense must be connected to VO, close to the load.", 6 -SENSE (in) "The sense input allows the regulation circuit to compensate for voltage drop between the module and the load. For optimal voltage accuracy, -Sense must be connected to GND (pin 3), very close to the module (within 10 cm).", 7 VO ADJUST (in) "A 0.05 W 1% resistor must be directly connected between this pin and pin 6 (- Sense) to set the output voltage to a value higher than 0.69 V. The temperature stability of the resistor should be 100 ppm/degreesC (or better). (See Datasheet)", 8 TURBOTRANS (in) "This input pin adjusts the transient response of the regulator. To activate the TurboTrans feature, a 1%, 0.05 W resistor must be connected between this pin and pin 5 (+Sense) very close to the module. For a given value of (See Datasheet)", 9 TRACK (in) "This is an analog control input that enables the output voltage to follow an external voltage. This pin becomes active typically 20 ms after the input voltage has been applied, and allows direct control of the output voltage (See Datasheet)", 10 ~{INHIBIT}/UVLO (in) "The Inhibit pin is an open-collector/drain, negative logic input that is referenced to GND. Applying a low level ground signal to this input disables the module’s output and turns off the output voltage. When the Inhibit (See Datasheet)"